# EAGLE library part SBH41-NBPB-D17-SP (library con-sullins)
HEADER - Vertical, Shrouded
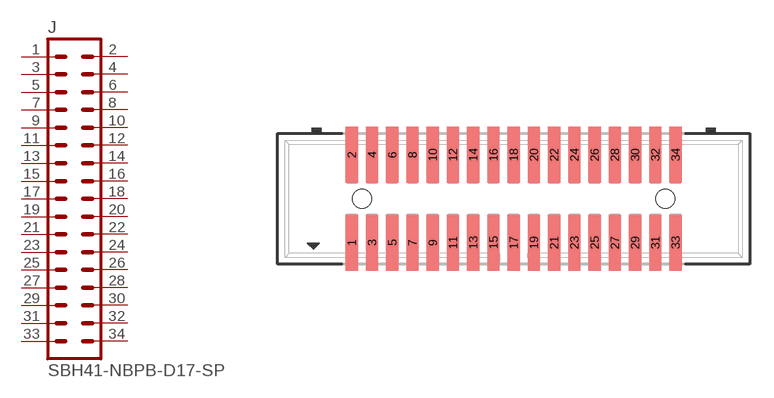
[diagram p54: symbol with the pads of SBH41-NBPB-D17-SP; footprint SBH41-NBPB-D17-SP]

Designator prefix J

## SBH41-NBPB-D17-SP  [SBH41-NBPB-D17-SP]
1  1  pas
2  2  pas
3  3  pas
4  4  pas
5  5  pas
6  6  pas
7  7  pas
8  8  pas
9  9  pas
10  10  pas
11  11  pas
12  12  pas
13  13  pas
14  14  pas
15  15  pas
16  16  pas
17  17  pas
18  18  pas
19  19  pas
20  20  pas
21  21  pas
22  22  pas
23  23  pas
24  24  pas
25  25  pas
26  26  pas
27  27  pas
28  28  pas
29  29  pas
30  30  pas
31  31  pas
32  32  pas
33  33  pas
34  34  pas

## Footprint SBH41-NBPB-D17-SP (pad centres in mm)
CONNECTOR HEADER 0.05" pitch
smd 0.762 x 3.505: 1 -10.16,-2.756; 2 -10.16,2.756; 3 -8.89,-2.756; 4 -8.89,2.756; 5 -7.62,-2.756; 6 -7.62,2.756; 7 -6.35,-2.756; 8 -6.35,2.756; 9 -5.08,-2.756; 10 -5.08,2.756; 11 -3.81,-2.756; 12 -3.81,2.756; 13 -2.54,-2.756; 14 -2.54,2.756; 15 -1.27,-2.756; 16 -1.27,2.756; 17 0,-2.756; 18 0,2.756; 19 1.27,-2.756; 20 1.27,2.756; 21 2.54,-2.756; 22 2.54,2.756; 23 3.81,-2.756; 24 3.81,2.756; 25 5.08,-2.756; 26 5.08,2.756; 27 6.35,-2.756; 28 6.35,2.756; 29 7.62,-2.756; 30 7.62,2.756; 31 8.89,-2.756; 32 8.89,2.756; 33 10.16,-2.756; 34 10.16,2.756
hole 1.194 at -9.525,0
hole 1.194 at 9.525,0